# Altium schematic symbol library Cap_Kemet_C0402C104J4RACTU_eec.SchLib: 1 symbol
Pins are listed as number, name and electrical type; pins without a type are passive.

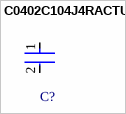
[diagram p0: symbol C0402C104J4RACTU]

## C0402C104J4RACTU
designator C?  (value not drawn)
pins: 1, 2